# Altium footprint library Mechanical_Hardware_Heatsink.PcbLib: 1 footprints
Each footprint in its own frame and in the unit in brackets; x right, y up, seen from the top. Pads: shape width x height; smd on the part's side, far side on the other; paste and mask are expansions set on the pad; w line width, h text height; cw(c..) or ccw(c..) is an arc to the next point about the centre after c.
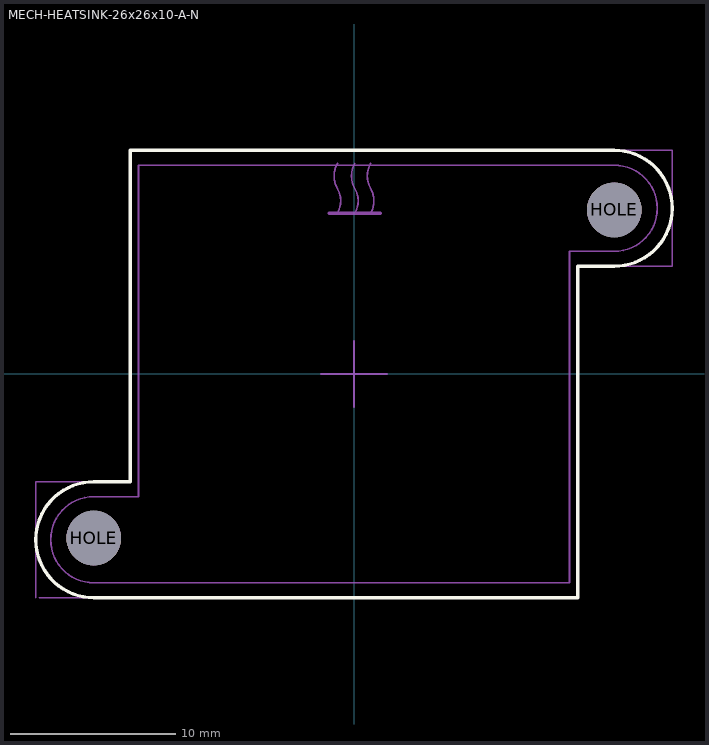
[diagram p0: the footprint, top view; thin cyan lines are the x and y axes]

## MECH-HEATSINK-26x26x10-A-N [mm]
height 10.2
pads (2):
  round 3.3 hole 3.3 mask+0: HOLE(-15.7,-9.9) HOLE(15.7,9.9)
Top Overlay:
  lines w0.2: -15.7,-13.5 cw(c-15.7,-10) -15.7,-6.5 -13.5,-6.5 -13.5,13.5 12.5,13.5 15.7,13.5 cw(c15.7,10) 15.7,6.5 13.5,6.5 13.5,-13.5 -12.5,-13.5 -15.7,-13.5
Top Package:
  circle w0.1: c-15.7,-9.9 r1.6
  circle w0.1: c15.7,9.9 r1.6
  lines w0.1: -1,9.7 ccw(c-2.3,10.45) -1,11.2 cw(c0.3,11.95) -1,12.7 ; 0.05,9.7 ccw(c-1.25,10.45) 0.05,11.2 cw(c1.35,11.95) 0.05,12.7 ; 1,9.7 ccw(c-0.3,10.45) 1,11.2 cw(c2.3,11.95) 1,12.7 ; -15.7,-12.6 cw(c-15.7,-10) -15.7,-7.4 -13,-7.4 -13,12.6 12.6,12.6 15.7,12.6 cw(c15.7,10) 15.7,7.4 13,7.4 13,-12.6 11.6,-12.6 -12.6,-12.6 -15.7,-12.6
  lines w0.2: -1.5,9.7 1.6,9.7
Top Comment:
  text ".Comment" at -4.257,-11.977 h3
Top Designator:
  text ".Designator" at -6.884,-11.933 h4
Top Border:
  lines w0.1: -19.2,-13.5 -19.2,-6.5 -13.5,-6.5 -13.5,-1.05 -13.5,4.05 -13.5,13.5 19.2,13.5 19.2,6.5 13.5,6.5 13.5,0.2 13.5,-8.25 13.5,-13.5 -19,-13.5 ; -2,0 2,0 ; 0,-2 0,2
3D body "Heatsink-26x26x10-A.stp": height 12.8, standoff 3, extent -18.734,-13 18.734,13